# EAGLE library part A2200-A (library circuit_tree)
IC
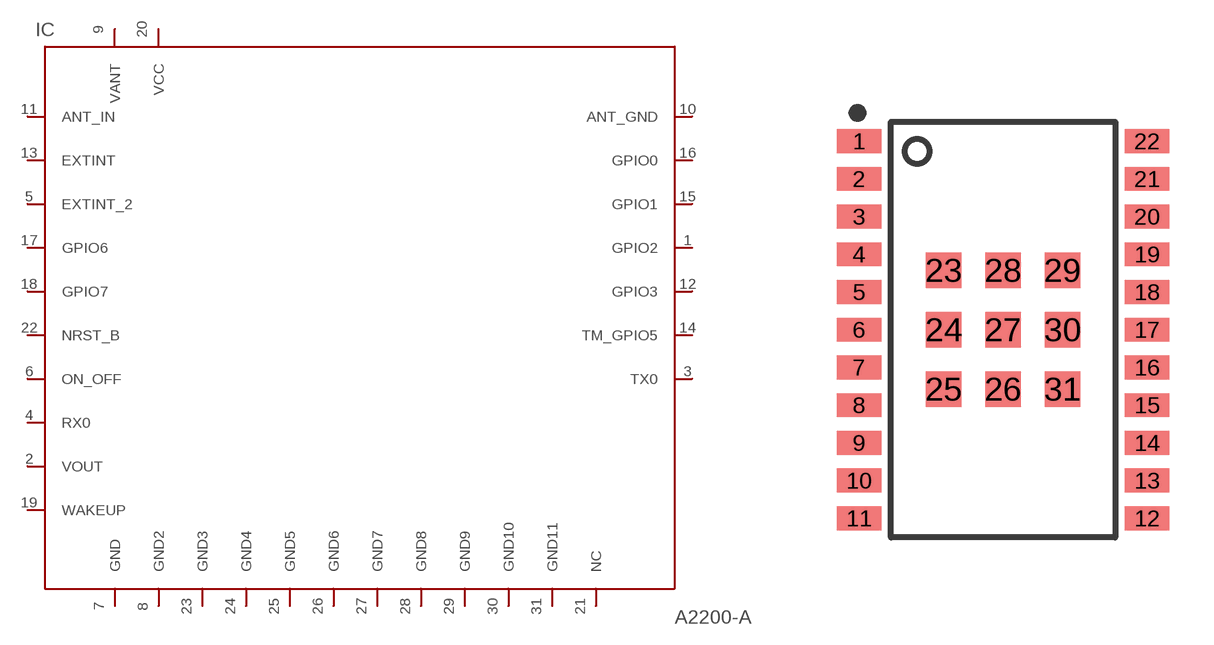
[diagram p1: symbol with the pads of A2200-A; footprint A2200-A]

Designator prefix IC

## A2200-A  [A2200-A]
1  GPIO2  pas
2  VOUT  pas
3  TX0  pas
4  RX0  pas
5  EXTINT_2  pas
6  ON_OFF  pas
7  GND  pas
8  GND2  pas
9  VANT  pas
10  ANT_GND  pas
11  ANT_IN  pas
12  GPIO3  pas
13  EXTINT  pas
14  TM_GPIO5  pas
15  GPIO1  pas
16  GPIO0  pas
17  GPIO6  pas
18  GPIO7  pas
19  WAKEUP  pas
20  VCC  pas
21  NC  pas
22  NRST_B  pas
23  GND3  pas
24  GND4  pas
25  GND5  pas
26  GND6  pas
27  GND7  pas
28  GND8  pas
29  GND9  pas
30  GND10  pas
31  GND11  pas

## Footprint A2200-A (pad centres in mm)
Maestro Wireless Solutions A2200-A
smd 1.5 x 0.8: 1 -4.85,6.35; 2 -4.85,5.08; 3 -4.85,3.81; 4 -4.85,2.54; 5 -4.85,1.27; 6 -4.85,0; 7 -4.85,-1.27; 8 -4.85,-2.54; 9 -4.85,-3.81; 10 -4.85,-5.08; 11 -4.85,-6.35; 12 4.85,-6.35; 13 4.85,-5.08; 14 4.85,-3.81; 15 4.85,-2.54; 16 4.85,-1.27; 17 4.85,0; 18 4.85,1.27; 19 4.85,2.54; 20 4.85,3.81; 21 4.85,5.08; 22 4.85,6.35
smd 1.2 x 1.2: 23 -2,2; 24 -2,0; 25 -2,-2; 26 0,-2; 27 0,0; 28 0,2; 29 2,2; 30 2,0; 31 2,-2